# Altium footprint library JST_B5B-ZR(LF)(SN).PcbLib: 1 footprints
Each footprint in its own frame and in the unit in brackets; x right, y up, seen from the top. Pads: shape width x height; smd on the part's side, far side on the other; paste and mask are expansions set on the pad; w line width, h text height; cw(c..) or ccw(c..) is an arc to the next point about the centre after c.
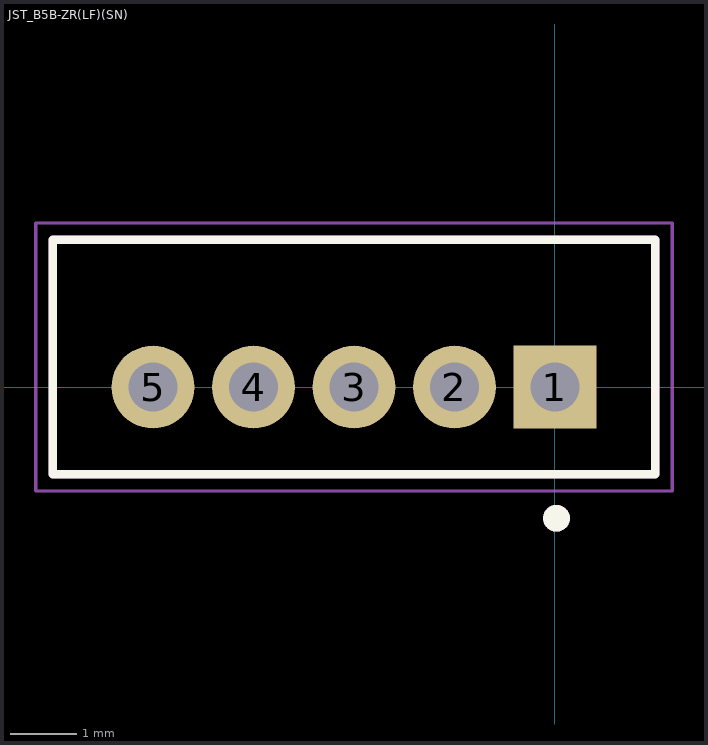
[diagram p0: the footprint, top view; thin cyan lines are the x and y axes]

## JST_B5B-ZR(LF)(SN) [mm]
pads (5):
  rect 1.238x1.238 hole 0.73: 1(0,0)
  round 1.238 hole 0.73: 2(-1.5,0) 3(-3,0) 4(-4.5,0) 5(-6,0)
Top Overlay:
  circle w0.2: c0.023,-1.958 r0.1
  lines w0.127: -7.5,-1.3 -7.5,2.2 1.5,2.2 1.5,-1.3 -7.5,-1.3
Mechanical 13:
  circle w0.2: c0.023,-1.958 r0.1
  lines w0.127: -7.5,-1.3 -7.5,2.2 1.5,2.2 1.5,-1.3 -7.5,-1.3
Mechanical 15:
  lines w0.05: -7.75,-1.55 -7.75,2.45 1.75,2.45 1.75,-1.55 -7.75,-1.55